# EAGLE library part MCP794*-I/? (library C3-Microchip)
MCP79XXX RTCC Real Time Clock Calendar - I2C Bus Datasheet <http://ww1.microchip.com/downloads/en/DeviceDoc/20002266H.pdf> Product Guide <http://www.microchip.com/design-centers/real-time-clock-calendar> Digikey Catalog <https://www.digikey.ca/products/en/integrated-circuits-ics/clock-timing-real-time-clocks/690?k=mcp79> I2C Real-Time Clock/Calendar with EEPROM, SRAM, Unique ID and Battery Switchover, I2C Bus interface
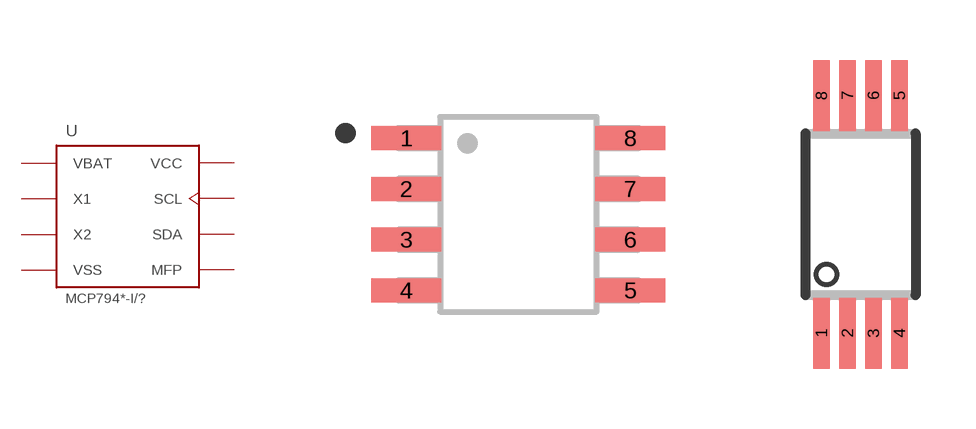
[diagram p0: symbol with the pads of SOIC8-N_MC; footprints SOIC8-N_MC, TSSOP-8]

Designator prefix U

## MCP794-I/SN, MCP79400-I/SN, MCP79401-I/SN, MCP79402-I/SN, MCP7940M-I/SN, MCP7940N-I/SN, MCP79410-I/SN, MCP79411-I/SN, MCP79412-I/SN  [SOIC8-N_MC]
1  X1
2  X2
3  VBAT  pas
4  VSS  pas
5  SDA
6  SCL  in
7  MFP  out
8  VCC  pwr

## MCP79400-I/ST, MCP79401-I/ST, MCP79402-I/ST, MCP7940M-I/ST, MCP7940N-I/ST, MCP79410-I/ST, MCP79411-I/ST, MCP79412-I/ST  [TSSOP-8]
Pads as for SOIC8-N_MC

## MCP79400-I/MS, MCP79401-I/MS, MCP79402-I/MS, MCP7940M-I/MS, MCP7940N-I/MS, MCP79410-I/MS, MCP79411-I/MS, MCP79412-I/MS  [MSOP8]
Pads as for SOIC8-N_MC

## MCP794-I/MNY, MCP7940MT-I/MNY, MCP79410T-I/MNY  [8-TDFN-EP]
1  X1
2  X2
3  VBAT  pas
4  VSS  pas
5  SDA
6  SCL  in
7  MFP  out
8  VCC  pwr
9  VSS  pas

## MCP794-I/P, MCP7940M-I/P, MCP7940N-I/P  [DIP-08]
Pads as for SOIC8-N_MC

## Footprint SOIC8-N_MC (pad centres in mm)
SOIC-8 Narrow
smd 1.75 x 0.6: 1 -2.8,1.905; 2 -2.8,0.635; 3 -2.8,-0.635; 4 -2.8,-1.905; 5 2.8,-1.905; 6 2.8,-0.635; 7 2.8,0.635; 8 2.8,1.905

## Footprint TSSOP-8 (pad centres in mm)
8-Pin TSSOP Source: www.xicor.com .. x1205.pdf
smd 0.42 x 1.78: 1 -0.975,-2.975; 2 -0.325,-2.975; 3 0.325,-2.975; 4 0.975,-2.975; 5 0.975,2.975; 6 0.325,2.975; 7 -0.325,2.975; 8 -0.975,2.975

## Footprint MSOP8 (pad centres in mm)
8M, 8-Lead, 0.118" Wide, Miniature Small Outline Package MSOP 8M-Package doc1097.pdf
smd 0.4 x 1.1: 1 -0.975,-2.25; 2 -0.325,-2.25; 3 0.325,-2.25; 4 0.975,-2.25; 5 0.975,2.25; 6 0.325,2.25; 7 -0.325,2.25; 8 -0.975,2.25

## Footprint 8-TDFN-EP (pad centres in mm)
TDFN - 8pin, 2mmx3mm
smd 0.7 x 0.3: 1 -0.99,0.75; 2 -0.99,0.25; 3 -0.99,-0.25; 4 -0.99,-0.75; 5 0.99,-0.75; 6 0.99,-0.25; 7 0.99,0.25; 8 0.99,0.75
smd 0.8 x 1.38: 9 0,0

## Footprint DIP-08 (pad centres in mm)
PDIP-8
drill 0.813 pad 1.727: 1 -3.81,3.81; 2 -3.81,1.27; 3 -3.81,-1.27; 4 -3.81,-3.81; 5 3.81,-3.81; 6 3.81,-1.27; 7 3.81,1.27; 8 3.81,3.81